# EAGLE library part MCP40D1 (library quentin)
I2C Rheostat [POT]
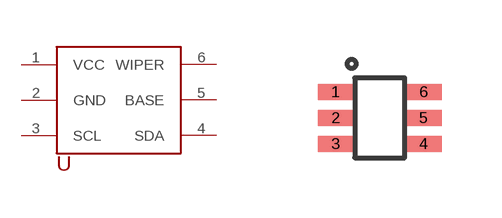
[diagram p20: symbol with the pads of SC70-6; footprint SC70-6]

Designator prefix -

## MCP40D17  [SC70-6]
1  VCC
2  GND
3  SCL
4  SDA
5  BASE
6  WIPER

## Footprint SC70-6 (pad centres in mm)
smd 0.9 x 0.4: 1 0,1.3; 2 0,0.65; 3 0,0; 4 2.2,0; 5 2.2,0.65; 6 2.2,1.3